# EAGLE library part LTC4121 (library linear-technology)
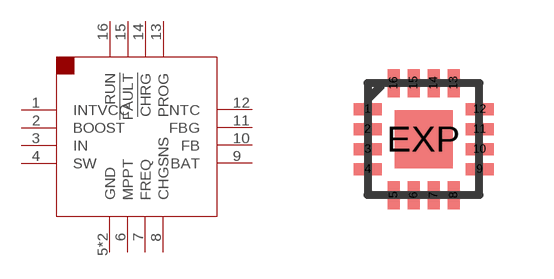
[diagram p35: symbol with the pads of QFN3X3-6; footprint QFN3X3-6]

Designator prefix -

## LTC4121  [QFN3X3-6]
1  INTVCC
2  BOOST
3  IN
4  SW
5  GND
6  MPPT
7  FREQ
8  CHGSNS
9  BAT
10  FB
11  FBG
12  NTC
13  PROG
14  !CHRG
15  !FAULT
16  RUN
EXP  GND

## Footprint QFN3X3-6 (pad centres in mm)
16-Lead Plastic QFN (3mm × 3mm) Auto generated by make-symbol-device-package-bsdl.ulp Rev. 44 Source: http://cds.linear.com/docs/en/datasheet/3645f.pdf
smd 0.7 x 0.3: 1 -1.4,0.75; 2 -1.4,0.25; 3 -1.4,-0.25; 4 -1.4,-0.75; 9 1.4,-0.75; 10 1.4,-0.25; 11 1.4,0.25; 12 1.4,0.75
smd 0.3 x 0.7: 5 -0.75,-1.4; 6 -0.25,-1.4; 7 0.25,-1.4; 8 0.75,-1.4; 13 0.75,1.4; 14 0.25,1.4; 15 -0.25,1.4; 16 -0.75,1.4
smd 1.45 x 1.45: EXP 0,0